# Altium schematic symbol library ATmega8U.SchLib: 1 symbol
Pins are listed as number, name and electrical type; pins without a type are passive.

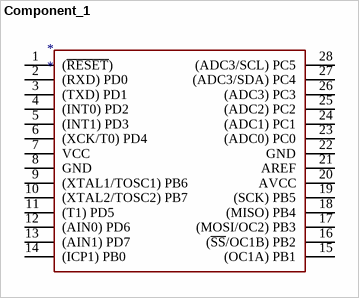
[diagram p0: symbol Component_1]

## Component_1
designator *
footprint DIP20
pins: 1 (~{RESET}) "Termal Pad", 2 (RXD) PD0 "Termal Pad", 3 (TXD) PD1 "Termal Pad", 4 (INT0) PD2 "Termal Pad", 5 (INT1) PD3 "Termal Pad", 6 (XCK/T0) PD4 "Termal Pad", 7 VCC "Termal Pad", 8 GND "Termal Pad", 9 (XTAL1/TOSC1) PB6 "Termal Pad", 10 (XTAL2/TOSC2) PB7 "Termal Pad", 11 (T1) PD5 "Termal Pad", 12 (AIN0) PD6 "Termal Pad", 13 (AIN1) PD7 "Termal Pad", 14 (ICP1) PB0 "Termal Pad", 15 (OC1A) PB1 "Termal Pad", 16 (~{SS}/OC1B) PB2 "Termal Pad", 17 (MOSI/OC2) PB3 "Termal Pad", 18 (MISO) PB4 "Termal Pad", 19 (SCK) PB5 "Termal Pad", 20 AVCC "Termal Pad", 21 AREF "Termal Pad", 22 GND "Termal Pad", 23 (ADC0) PC0 "Termal Pad", 24 (ADC1) PC1 "Termal Pad", 25 (ADC2) PC2 "Termal Pad", 26 (ADC3) PC3 "Termal Pad", 27 (ADC3/SDA) PC4 "Termal Pad", 28 (ADC3/SCL) PC5 "Termal Pad"